# Altium integrated library TI Logic Buffer Line Driver.IntLib: 1053 symbols (part 8 of 17)
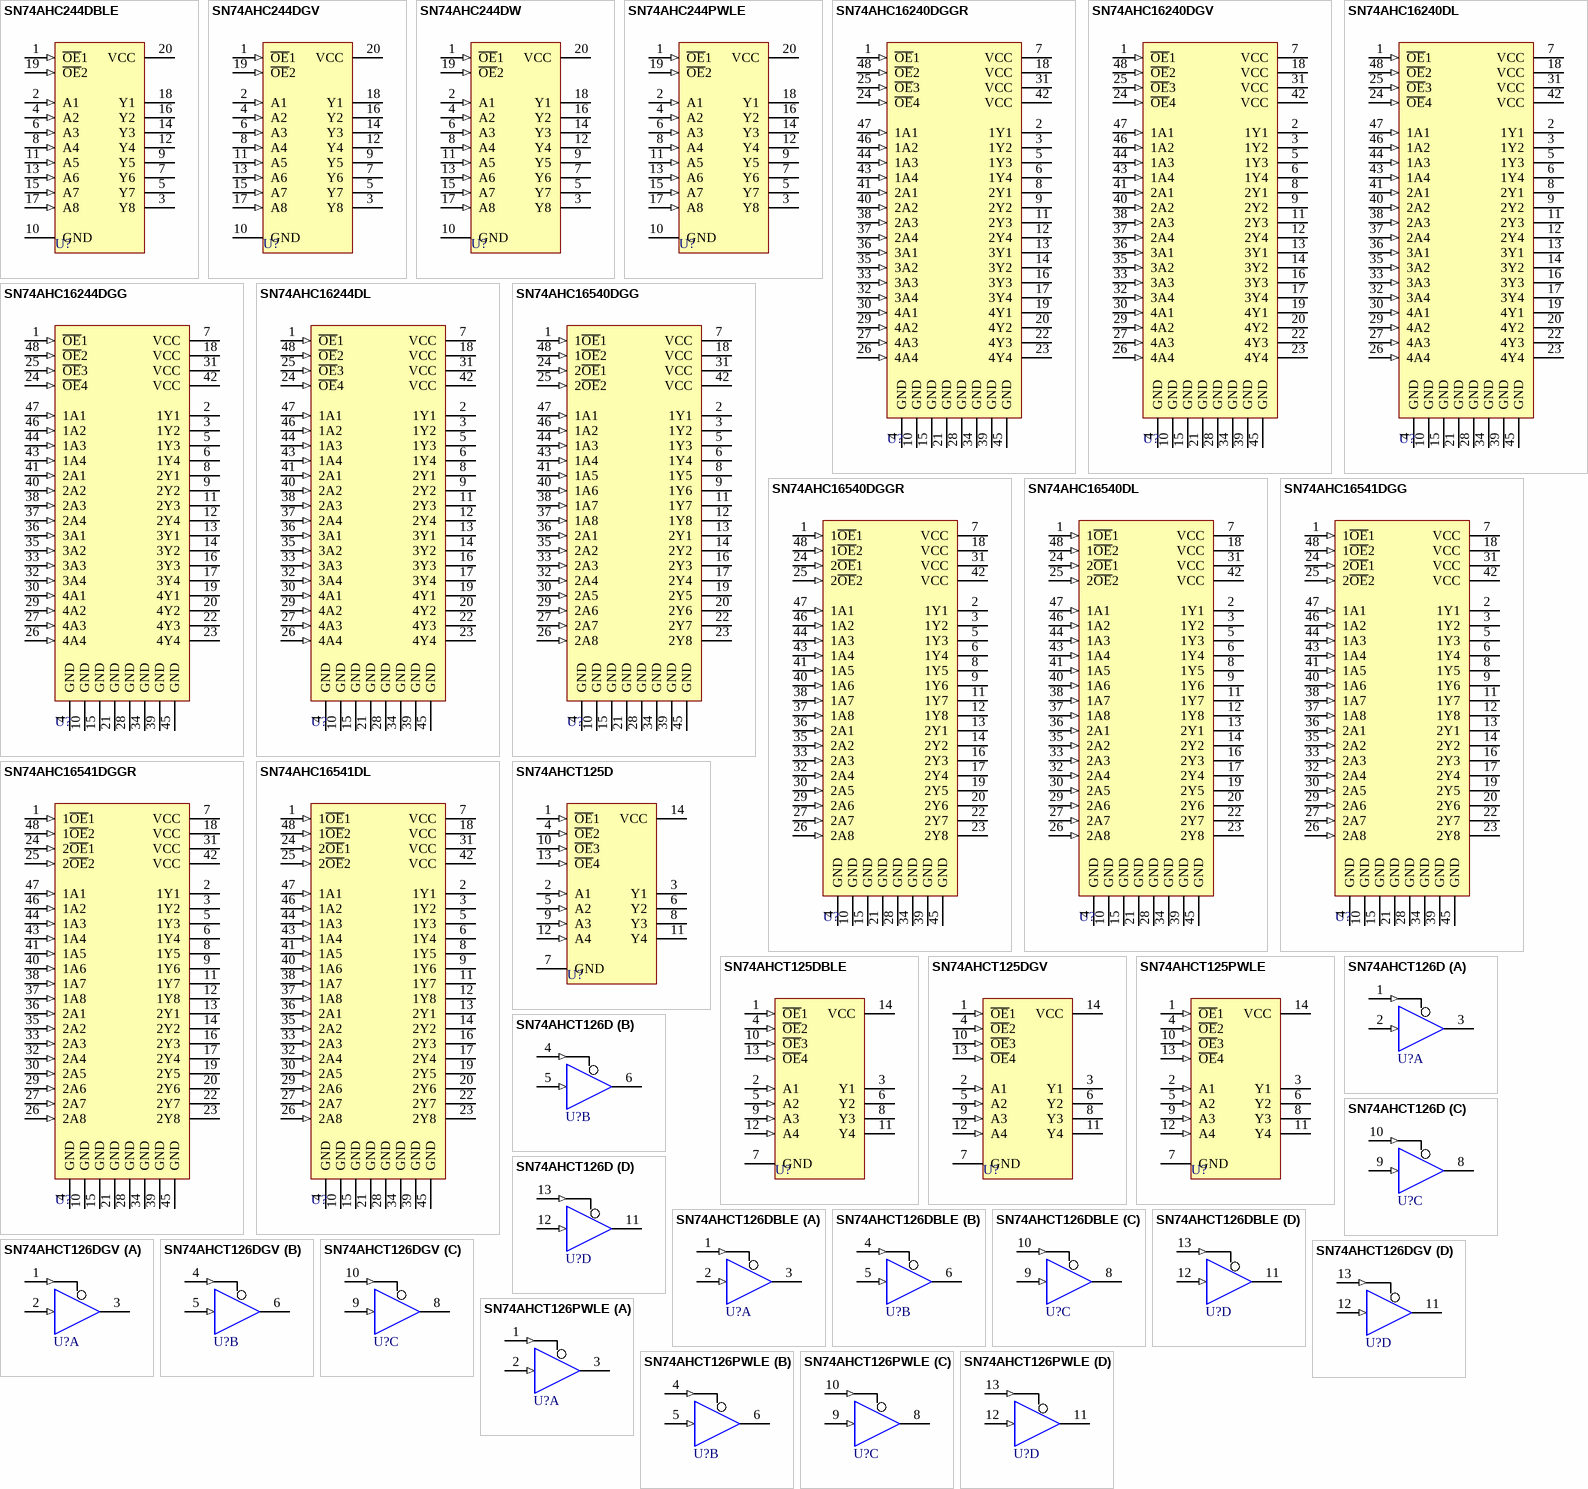
[diagram p52: symbols SN74AHC244DBLE to SN74AHCT126PWLE]

## SN74AHC16540DGGR
designator U?
16-Bit Buffer/Driver with 3-State Outputs; Package Information: Latest Revision: Jan-1998; Published: 8-Jun-2000; Revision: 17-Jul-2002: Re-released for DXP Platform.; Datasheet: Latest Revision: Jul-1998; Package Reference: DGG048; Publisher: Altium Limited
footprint DGG048 (Shrink Small Outline; 48 Leads; Body Width 6.1 mm; Pitch 0.5 mm)
signal-integrity model SN74AHC16540DGGR
pins: 1 1~{OE}1 (in), 2 1Y1 (hiz), 3 1Y2 (hiz), 4 GND (power), 5 1Y3 (hiz), 6 1Y4 (hiz), 7 VCC (power), 8 1Y5 (hiz), 9 1Y6 (hiz), 10 GND (power), 11 1Y7 (hiz), 12 1Y8 (hiz), 13 2Y1 (hiz), 14 2Y2 (hiz), 15 GND (power), 16 2Y3 (hiz), 17 2Y4 (hiz), 18 VCC (power), 19 2Y5 (hiz), 20 2Y6 (hiz), 21 GND (power), 22 2Y7 (hiz), 23 2Y8 (hiz), 24 2~{OE}1 (in), 25 2~{OE}2 (in), 26 2A8 (in), 27 2A7 (in), 28 GND (power), 29 2A6 (in), 30 2A5 (in), 31 VCC (power), 32 2A4 (in), 33 2A3 (in), 34 GND (power), 35 2A2 (in), 36 2A1 (in), 37 1A8 (in), 38 1A7 (in), 39 GND (power), 40 1A6 (in), 41 1A5 (in), 42 VCC (power), 43 1A4 (in), 44 1A3 (in), 45 GND (power), 46 1A2 (in), 47 1A1 (in), 48 1~{OE}2 (in)

## SN74AHC16540DL
designator U?
16-Bit Buffer/Driver with 3-State Outputs; Package Information: Latest Revision: Jan-1998; Code - JEDEC: MO-118-AA; Code - IPC: SSO48; Published: 8-Jun-2000; Revision: 17-Jul-2002: Re-released for DXP Platform.; Datasheet: Latest Revision: Jul-1998; Package Reference: DL048; Publisher: Altium Limited
footprint DL048 (SSOP; 48 Leads; Body Width 7.5 mm; Pitch 0.635 mm)
signal-integrity model SN74AHC16540DL
pins: 1 1~{OE}1 (in), 2 1Y1 (hiz), 3 1Y2 (hiz), 4 GND (power), 5 1Y3 (hiz), 6 1Y4 (hiz), 7 VCC (power), 8 1Y5 (hiz), 9 1Y6 (hiz), 10 GND (power), 11 1Y7 (hiz), 12 1Y8 (hiz), 13 2Y1 (hiz), 14 2Y2 (hiz), 15 GND (power), 16 2Y3 (hiz), 17 2Y4 (hiz), 18 VCC (power), 19 2Y5 (hiz), 20 2Y6 (hiz), 21 GND (power), 22 2Y7 (hiz), 23 2Y8 (hiz), 24 2~{OE}1 (in), 25 2~{OE}2 (in), 26 2A8 (in), 27 2A7 (in), 28 GND (power), 29 2A6 (in), 30 2A5 (in), 31 VCC (power), 32 2A4 (in), 33 2A3 (in), 34 GND (power), 35 2A2 (in), 36 2A1 (in), 37 1A8 (in), 38 1A7 (in), 39 GND (power), 40 1A6 (in), 41 1A5 (in), 42 VCC (power), 43 1A4 (in), 44 1A3 (in), 45 GND (power), 46 1A2 (in), 47 1A1 (in), 48 1~{OE}2 (in)

## SN74AHC16541DGG
designator U?
16-Bit Buffer/Driver with 3-State Outputs; Package Information: Latest Revision: Jan-1998; Published: 8-Jun-2000; Revision: 17-Jul-2002: Re-released for DXP Platform.; Datasheet: Latest Revision: Jul-1998; Package Reference: DGG048; Publisher: Altium Limited
footprint DGG048 (Shrink Small Outline; 48 Leads; Body Width 6.1 mm; Pitch 0.5 mm)
signal-integrity model SN74AHC16541DGG
pins: 1 1~{OE}1 (in), 2 1Y1 (hiz), 3 1Y2 (hiz), 4 GND (power), 5 1Y3 (hiz), 6 1Y4 (hiz), 7 VCC (power), 8 1Y5 (hiz), 9 1Y6 (hiz), 10 GND (power), 11 1Y7 (hiz), 12 1Y8 (hiz), 13 2Y1 (hiz), 14 2Y2 (hiz), 15 GND (power), 16 2Y3 (hiz), 17 2Y4 (hiz), 18 VCC (power), 19 2Y5 (hiz), 20 2Y6 (hiz), 21 GND (power), 22 2Y7 (hiz), 23 2Y8 (hiz), 24 2~{OE}1 (in), 25 2~{OE}2 (in), 26 2A8 (in), 27 2A7 (in), 28 GND (power), 29 2A6 (in), 30 2A5 (in), 31 VCC (power), 32 2A4 (in), 33 2A3 (in), 34 GND (power), 35 2A2 (in), 36 2A1 (in), 37 1A8 (in), 38 1A7 (in), 39 GND (power), 40 1A6 (in), 41 1A5 (in), 42 VCC (power), 43 1A4 (in), 44 1A3 (in), 45 GND (power), 46 1A2 (in), 47 1A1 (in), 48 1~{OE}2 (in)

## SN74AHC16541DGGR
designator U?
16-Bit Buffer/Driver with 3-State Outputs; Package Information: Latest Revision: Jan-1998; Published: 8-Jun-2000; Revision: 17-Jul-2002: Re-released for DXP Platform.; Datasheet: Latest Revision: Jul-1998; Package Reference: DGG048; Publisher: Altium Limited
footprint DGG048 (Shrink Small Outline; 48 Leads; Body Width 6.1 mm; Pitch 0.5 mm)
signal-integrity model SN74AHC16541DGGR
pins: 1 1~{OE}1 (in), 2 1Y1 (hiz), 3 1Y2 (hiz), 4 GND (power), 5 1Y3 (hiz), 6 1Y4 (hiz), 7 VCC (power), 8 1Y5 (hiz), 9 1Y6 (hiz), 10 GND (power), 11 1Y7 (hiz), 12 1Y8 (hiz), 13 2Y1 (hiz), 14 2Y2 (hiz), 15 GND (power), 16 2Y3 (hiz), 17 2Y4 (hiz), 18 VCC (power), 19 2Y5 (hiz), 20 2Y6 (hiz), 21 GND (power), 22 2Y7 (hiz), 23 2Y8 (hiz), 24 2~{OE}1 (in), 25 2~{OE}2 (in), 26 2A8 (in), 27 2A7 (in), 28 GND (power), 29 2A6 (in), 30 2A5 (in), 31 VCC (power), 32 2A4 (in), 33 2A3 (in), 34 GND (power), 35 2A2 (in), 36 2A1 (in), 37 1A8 (in), 38 1A7 (in), 39 GND (power), 40 1A6 (in), 41 1A5 (in), 42 VCC (power), 43 1A4 (in), 44 1A3 (in), 45 GND (power), 46 1A2 (in), 47 1A1 (in), 48 1~{OE}2 (in)

## SN74AHC16541DL
designator U?
16-Bit Buffer/Driver with 3-State Outputs; Package Information: Latest Revision: Jan-1998; Code - JEDEC: MO-118-AA; Code - IPC: SSO48; Published: 8-Jun-2000; Revision: 17-Jul-2002: Re-released for DXP Platform.; Datasheet: Latest Revision: Jul-1998; Package Reference: DL048; Publisher: Altium Limited
footprint DL048 (SSOP; 48 Leads; Body Width 7.5 mm; Pitch 0.635 mm)
signal-integrity model SN74AHC16541DL
pins: 1 1~{OE}1 (in), 2 1Y1 (hiz), 3 1Y2 (hiz), 4 GND (power), 5 1Y3 (hiz), 6 1Y4 (hiz), 7 VCC (power), 8 1Y5 (hiz), 9 1Y6 (hiz), 10 GND (power), 11 1Y7 (hiz), 12 1Y8 (hiz), 13 2Y1 (hiz), 14 2Y2 (hiz), 15 GND (power), 16 2Y3 (hiz), 17 2Y4 (hiz), 18 VCC (power), 19 2Y5 (hiz), 20 2Y6 (hiz), 21 GND (power), 22 2Y7 (hiz), 23 2Y8 (hiz), 24 2~{OE}1 (in), 25 2~{OE}2 (in), 26 2A8 (in), 27 2A7 (in), 28 GND (power), 29 2A6 (in), 30 2A5 (in), 31 VCC (power), 32 2A4 (in), 33 2A3 (in), 34 GND (power), 35 2A2 (in), 36 2A1 (in), 37 1A8 (in), 38 1A7 (in), 39 GND (power), 40 1A6 (in), 41 1A5 (in), 42 VCC (power), 43 1A4 (in), 44 1A3 (in), 45 GND (power), 46 1A2 (in), 47 1A1 (in), 48 1~{OE}2 (in)

## SN74AHCT125D
designator U?
Quadruple Bus Buffer Gate with 3-State Outputs; Package Information: Latest Revision: Jan-1998; Published: 8-Jun-2000; Revision: 17-Jul-2002: Re-released for DXP Platform.; Datasheet: Latest Revision: Oct-1998; Package Reference: D014; Publisher: Altium Limited
footprint D014 (Small Outline; 14 Leads; Body Width 3.9 mm; Pitch 1.27 mm)
signal-integrity model SN74AHCT125D
pins: 1 ~{OE}1 (in), 2 A1 (in), 3 Y1 (hiz), 4 ~{OE}2 (in), 5 A2 (in), 6 Y2 (hiz), 7 GND (power), 8 Y3 (hiz), 9 A3 (in), 10 ~{OE}3 (in), 11 Y4 (hiz), 12 A4 (in), 13 ~{OE}4 (in), 14 VCC (power)

## SN74AHCT125DBLE
designator U?
Quadruple Bus Buffer Gate with 3-State Outputs; Package Information: Latest Revision: May-1999; Code - JEDEC: MO-150-AB; Published: 8-Jun-2000; Revision: 17-Jul-2002: Re-released for DXP Platform.; Datasheet: Latest Revision: Oct-1998; Package Reference: DB014; Publisher: Altium Limited
footprint DB014 (Plastic SSOP; 14 Leads; Body Width 5.3 mm; Pitch 0.65 mm)
signal-integrity model SN74AHCT125DBLE
pins: 1 ~{OE}1 (in), 2 A1 (in), 3 Y1 (hiz), 4 ~{OE}2 (in), 5 A2 (in), 6 Y2 (hiz), 7 GND (power), 8 Y3 (hiz), 9 A3 (in), 10 ~{OE}3 (in), 11 Y4 (hiz), 12 A4 (in), 13 ~{OE}4 (in), 14 VCC (power)

## SN74AHCT125DGV
designator U?
Quadruple Bus Buffer Gate with 3-State Outputs; Package Information: Latest Revision: Mar-1999; Published: 8-Jun-2000; Revision: 17-Jul-2002: Re-released for DXP Platform.; Datasheet: Latest Revision: Oct-1998; Package Reference: DGV014; Publisher: Altium Limited
footprint DGV014 (Shrink Small Outline; 14 Leads; Body Width 4.4 mm; Pitch 0.4 mm)
signal-integrity model SN74AHCT125DGV
pins: 1 ~{OE}1 (in), 2 A1 (in), 3 Y1 (hiz), 4 ~{OE}2 (in), 5 A2 (in), 6 Y2 (hiz), 7 GND (power), 8 Y3 (hiz), 9 A3 (in), 10 ~{OE}3 (in), 11 Y4 (hiz), 12 A4 (in), 13 ~{OE}4 (in), 14 VCC (power)

## SN74AHCT125PWLE
designator U?
Quadruple Bus Buffer Gate with 3-State Outputs; Package Information: Latest Revision: Feb-1999; Published: 8-Jun-2000; Revision: 17-Jul-2002: Re-released for DXP Platform.; Datasheet: Latest Revision: Oct-1998; Package Reference: PW014; Publisher: Altium Limited
footprint PW014 (Shrink Small Outline; 14 Leads; Body Width 4.4 mm; Pitch 0.65 mm)
signal-integrity model SN74AHCT125PWLE
pins: 1 ~{OE}1 (in), 2 A1 (in), 3 Y1 (hiz), 4 ~{OE}2 (in), 5 A2 (in), 6 Y2 (hiz), 7 GND (power), 8 Y3 (hiz), 9 A3 (in), 10 ~{OE}3 (in), 11 Y4 (hiz), 12 A4 (in), 13 ~{OE}4 (in), 14 VCC (power)

## SN74AHCT126D
designator U?
Quadruple Bus Buffer Gate with 3-State Outputs; Package Information: Latest Revision: Jan-1998; Published: 8-Jun-2000; Revision: 17-Jul-2002: Re-released for DXP Platform.; Datasheet: Latest Revision: Oct-1998; Package Reference: D014; Publisher: Altium Limited
footprint D014 (Small Outline; 14 Leads; Body Width 3.9 mm; Pitch 1.27 mm)
signal-integrity model SN74AHCT126D
pins on every part: 7 GND (power) hidden to GND, 14 VCC (power) hidden to VCC
part A pins: 1 OE (in), 2 A (in), 3 Y (hiz)
part B pins: 4 OE (in), 5 A (in), 6 Y (hiz)
part C pins: 8 Y (hiz), 9 A (in), 10 OE (in)
part D pins: 11 Y (hiz), 12 A (in), 13 OE (in)

## SN74AHCT126DBLE
designator U?
Quadruple Bus Buffer Gate with 3-State Outputs; Package Information: Latest Revision: May-1999; Code - JEDEC: MO-150-AB; Published: 8-Jun-2000; Revision: 17-Jul-2002: Re-released for DXP Platform.; Datasheet: Latest Revision: Oct-1998; Package Reference: DB014; Publisher: Altium Limited
footprint DB014 (Plastic SSOP; 14 Leads; Body Width 5.3 mm; Pitch 0.65 mm)
signal-integrity model SN74AHCT126DBLE
pins on every part: 7 GND (power) hidden to GND, 14 VCC (power) hidden to VCC
part A pins: 1 OE (in), 2 A (in), 3 Y (hiz)
part B pins: 4 OE (in), 5 A (in), 6 Y (hiz)
part C pins: 8 Y (hiz), 9 A (in), 10 OE (in)
part D pins: 11 Y (hiz), 12 A (in), 13 OE (in)

## SN74AHCT126DGV
designator U?
Quadruple Bus Buffer Gate with 3-State Outputs; Package Information: Latest Revision: Mar-1999; Published: 8-Jun-2000; Revision: 17-Jul-2002: Re-released for DXP Platform.; Datasheet: Latest Revision: Oct-1998; Package Reference: DGV014; Publisher: Altium Limited
footprint DGV014 (Shrink Small Outline; 14 Leads; Body Width 4.4 mm; Pitch 0.4 mm)
signal-integrity model SN74AHCT126DGV
pins on every part: 7 GND (power) hidden to GND, 14 VCC (power) hidden to VCC
part A pins: 1 OE (in), 2 A (in), 3 Y (hiz)
part B pins: 4 OE (in), 5 A (in), 6 Y (hiz)
part C pins: 8 Y (hiz), 9 A (in), 10 OE (in)
part D pins: 11 Y (hiz), 12 A (in), 13 OE (in)

## SN74AHCT126PWLE
designator U?
Quadruple Bus Buffer Gate with 3-State Outputs; Package Information: Latest Revision: Feb-1999; Published: 8-Jun-2000; Revision: 17-Jul-2002: Re-released for DXP Platform.; Datasheet: Latest Revision: Oct-1998; Package Reference: PW014; Publisher: Altium Limited
footprint PW014 (Shrink Small Outline; 14 Leads; Body Width 4.4 mm; Pitch 0.65 mm)
signal-integrity model SN74AHCT126PWLE
pins on every part: 7 GND (power) hidden to GND, 14 VCC (power) hidden to VCC
part A pins: 1 OE (in), 2 A (in), 3 Y (hiz)
part B pins: 4 OE (in), 5 A (in), 6 Y (hiz)
part C pins: 8 Y (hiz), 9 A (in), 10 OE (in)
part D pins: 11 Y (hiz), 12 A (in), 13 OE (in)

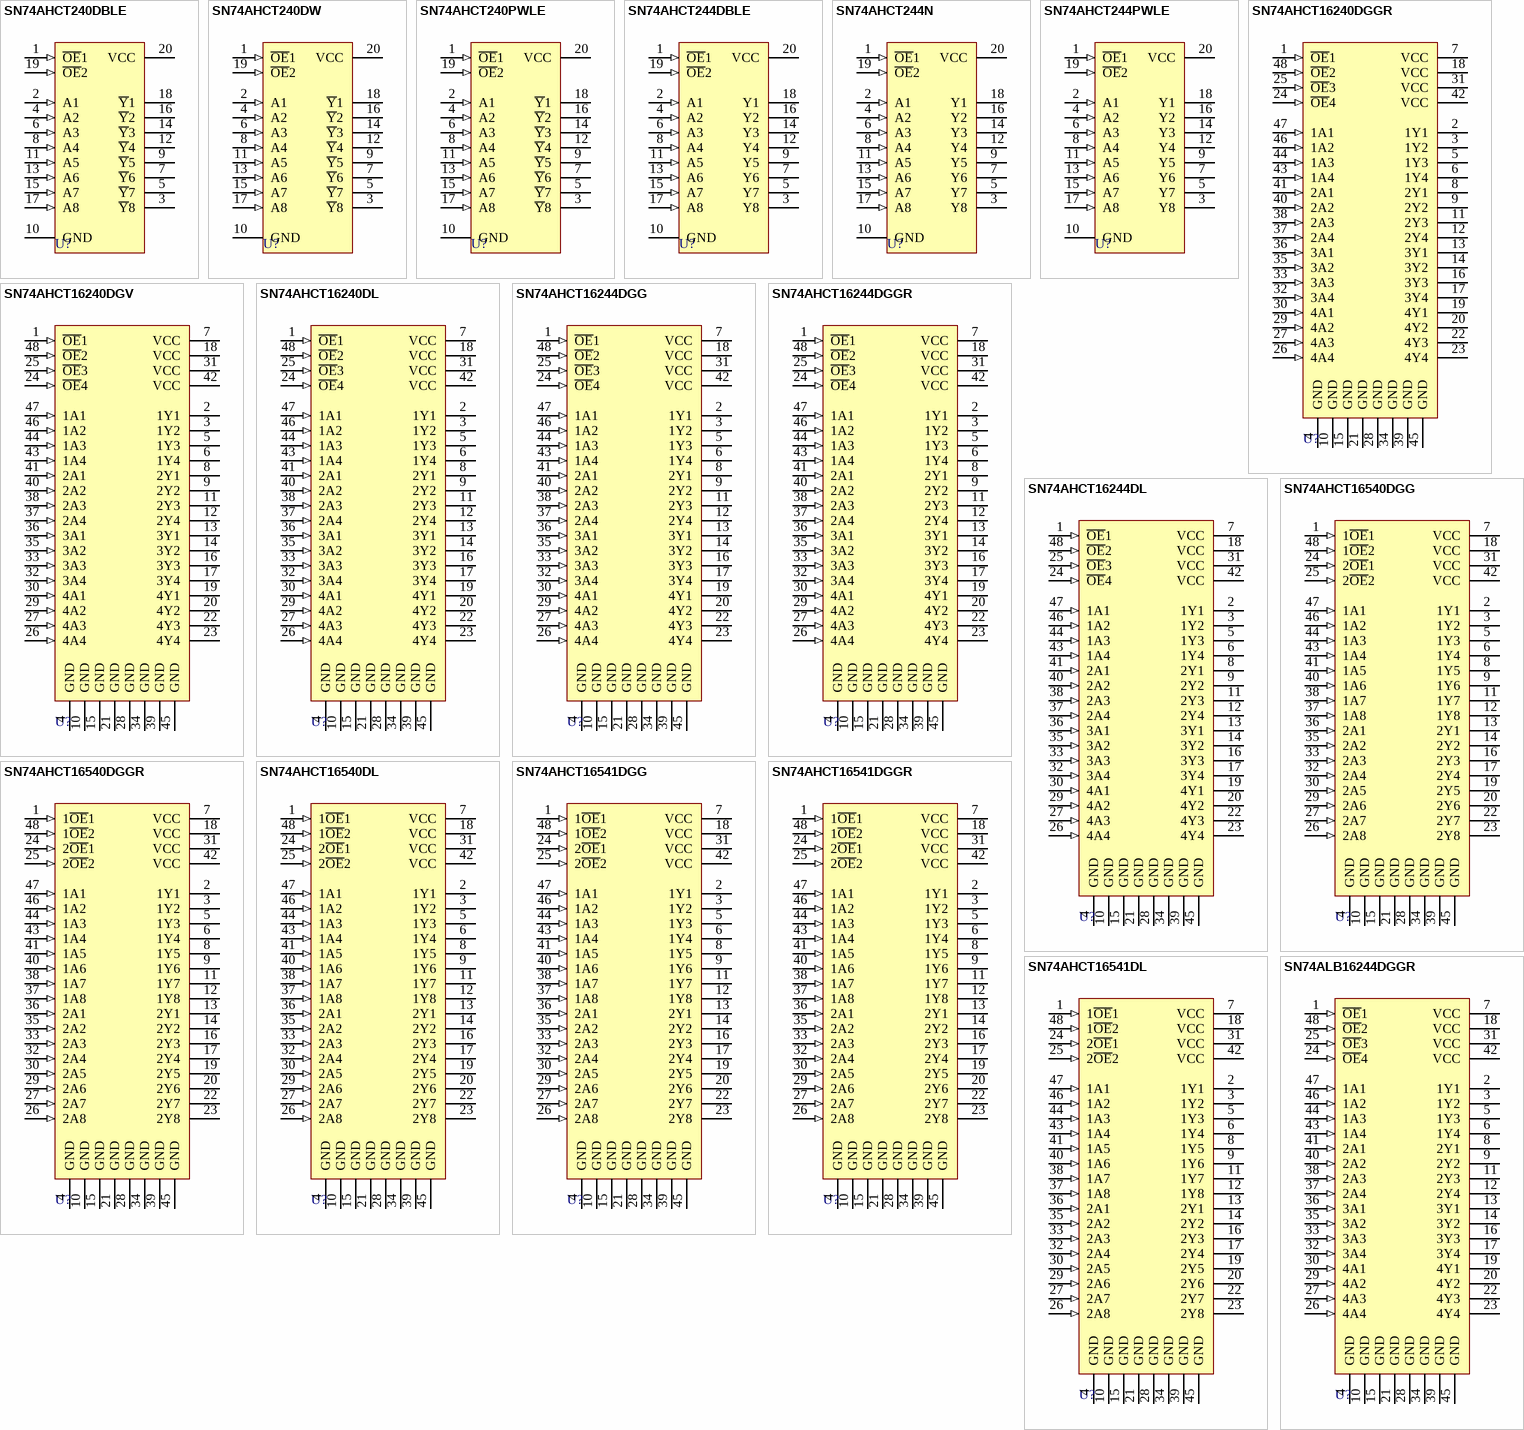
[diagram p20: symbols SN74AHCT240DBLE to SN74ALB16244DGGR]

## SN74AHCT240DBLE
designator U?
Octal Buffer/Driver with 3-State Outputs; Package Information: Latest Revision: May-1999; Code - JEDEC: MO-150-AE; Published: 8-Jun-2000; Revision: 17-Jul-2002: Re-released for DXP Platform.; Datasheet: Latest Revision: Oct-1998; Package Reference: DB020; Publisher: Altium Limited
footprint DB020 (Plastic SSOP; 20 Leads; Body Width 5.3 mm; Pitch 0.65 mm)
signal-integrity model SN74AHCT240DBLE
pins: 1 ~{OE}1 (in), 2 A1 (in), 3 ~{Y}8 (hiz), 4 A2 (in), 5 ~{Y}7 (hiz), 6 A3 (in), 7 ~{Y}6 (hiz), 8 A4 (in), 9 ~{Y}5 (hiz), 10 GND (power), 11 A5 (in), 12 ~{Y}4 (hiz), 13 A6 (in), 14 ~{Y}3 (hiz), 15 A7 (in), 16 ~{Y}2 (hiz), 17 A8 (in), 18 ~{Y}1 (hiz), 19 ~{OE}2 (in), 20 VCC (power)

## SN74AHCT240DW
designator U?
Octal Buffer/Driver with 3-State Outputs; Package Information: Latest Revision: Mar-2000; Code - JEDEC: MS-013; Published: 8-Jun-2000; Revision: 17-Jul-2002: Re-released for DXP Platform.; Datasheet: Latest Revision: Oct-1998; Package Reference: DW020; Publisher: Altium Limited
footprint DW020 (Plastic Small Outline; 20 Leads; Body Width 7.5 mm)
signal-integrity model SN74AHCT240DW
pins: 1 ~{OE}1 (in), 2 A1 (in), 3 ~{Y}8 (hiz), 4 A2 (in), 5 ~{Y}7 (hiz), 6 A3 (in), 7 ~{Y}6 (hiz), 8 A4 (in), 9 ~{Y}5 (hiz), 10 GND (power), 11 A5 (in), 12 ~{Y}4 (hiz), 13 A6 (in), 14 ~{Y}3 (hiz), 15 A7 (in), 16 ~{Y}2 (hiz), 17 A8 (in), 18 ~{Y}1 (hiz), 19 ~{OE}2 (in), 20 VCC (power)

## SN74AHCT240PWLE
designator U?
Octal Buffer/Driver with 3-State Outputs; Package Information: Latest Revision: Feb-1999; Published: 8-Jun-2000; Revision: 17-Jul-2002: Re-released for DXP Platform.; Datasheet: Latest Revision: Oct-1998; Package Reference: PW020; Publisher: Altium Limited
footprint PW020 (Shrink Small Outline; 20 Leads; Body Width 4.4 mm; Pitch 0.65 mm)
signal-integrity model SN74AHCT240PWLE
pins: 1 ~{OE}1 (in), 2 A1 (in), 3 ~{Y}8 (hiz), 4 A2 (in), 5 ~{Y}7 (hiz), 6 A3 (in), 7 ~{Y}6 (hiz), 8 A4 (in), 9 ~{Y}5 (hiz), 10 GND (power), 11 A5 (in), 12 ~{Y}4 (hiz), 13 A6 (in), 14 ~{Y}3 (hiz), 15 A7 (in), 16 ~{Y}2 (hiz), 17 A8 (in), 18 ~{Y}1 (hiz), 19 ~{OE}2 (in), 20 VCC (power)

## SN74AHCT244DBLE
designator U?
Octal Buffer/Driver with 3-State Outputs; Package Information: Latest Revision: May-1999; Code - JEDEC: MO-150-AE; Published: 8-Jun-2000; Revision: 17-Jul-2002: Re-released for DXP Platform.; Datasheet: Latest Revision: Oct-1998; Package Reference: DB020; Publisher: Altium Limited
footprint DB020 (Plastic SSOP; 20 Leads; Body Width 5.3 mm; Pitch 0.65 mm)
signal-integrity model SN74AHCT244DBLE
pins: 1 ~{OE}1 (in), 2 A1 (in), 3 Y8 (hiz), 4 A2 (in), 5 Y7 (hiz), 6 A3 (in), 7 Y6 (hiz), 8 A4 (in), 9 Y5 (hiz), 10 GND (power), 11 A5 (in), 12 Y4 (hiz), 13 A6 (in), 14 Y3 (hiz), 15 A7 (in), 16 Y2 (hiz), 17 A8 (in), 18 Y1 (hiz), 19 ~{OE}2 (in), 20 VCC (power)

## SN74AHCT244N
designator U?
Octal Buffer/Driver with 3-State Outputs; Package Information: Latest Revision: Oct-1995; Published: 8-Jun-2000; Revision: 17-Jul-2002: Re-released for DXP Platform.; Datasheet: Latest Revision: Oct-1998; Package Reference: N020; Publisher: Altium Limited
footprint N020 (DIP; 20 Leads; Row Spacing 7.62 mm; Pitch 2.54 mm)
signal-integrity model SN74AHCT244N
pins: 1 ~{OE}1 (in), 2 A1 (in), 3 Y8 (hiz), 4 A2 (in), 5 Y7 (hiz), 6 A3 (in), 7 Y6 (hiz), 8 A4 (in), 9 Y5 (hiz), 10 GND (power), 11 A5 (in), 12 Y4 (hiz), 13 A6 (in), 14 Y3 (hiz), 15 A7 (in), 16 Y2 (hiz), 17 A8 (in), 18 Y1 (hiz), 19 ~{OE}2 (in), 20 VCC (power)

## SN74AHCT244PWLE
designator U?
Octal Buffer/Driver with 3-State Outputs; Package Information: Latest Revision: Feb-1999; Published: 8-Jun-2000; Revision: 17-Jul-2002: Re-released for DXP Platform.; Datasheet: Latest Revision: Oct-1998; Package Reference: PW020; Publisher: Altium Limited
footprint PW020 (Shrink Small Outline; 20 Leads; Body Width 4.4 mm; Pitch 0.65 mm)
signal-integrity model SN74AHCT244PWLE
pins: 1 ~{OE}1 (in), 2 A1 (in), 3 Y8 (hiz), 4 A2 (in), 5 Y7 (hiz), 6 A3 (in), 7 Y6 (hiz), 8 A4 (in), 9 Y5 (hiz), 10 GND (power), 11 A5 (in), 12 Y4 (hiz), 13 A6 (in), 14 Y3 (hiz), 15 A7 (in), 16 Y2 (hiz), 17 A8 (in), 18 Y1 (hiz), 19 ~{OE}2 (in), 20 VCC (power)

## SN74AHCT16240DGGR
designator U?
16-Bit Buffer/Driver with 3-State Outputs; Package Information: Latest Revision: Jan-1998; Published: 8-Jun-2000; Revision: 17-Jul-2002: Re-released for DXP Platform.; Datasheet: Latest Revision: Oct-1998; Package Reference: DGG048; Publisher: Altium Limited
footprint DGG048 (Shrink Small Outline; 48 Leads; Body Width 6.1 mm; Pitch 0.5 mm)
signal-integrity model SN74AHCT16240DGGR
pins: 1 ~{OE}1 (in), 2 1Y1 (hiz), 3 1Y2 (hiz), 4 GND (power), 5 1Y3 (hiz), 6 1Y4 (hiz), 7 VCC (power), 8 2Y1 (hiz), 9 2Y2 (hiz), 10 GND (power), 11 2Y3 (hiz), 12 2Y4 (hiz), 13 3Y1 (hiz), 14 3Y2 (hiz), 15 GND (power), 16 3Y3 (hiz), 17 3Y4 (hiz), 18 VCC (power), 19 4Y1 (hiz), 20 4Y2 (hiz), 21 GND (power), 22 4Y3 (hiz), 23 4Y4 (hiz), 24 ~{OE}4 (in), 25 ~{OE}3 (in), 26 4A4 (in), 27 4A3 (in), 28 GND (power), 29 4A2 (in), 30 4A1 (in), 31 VCC (power), 32 3A4 (in), 33 3A3 (in), 34 GND (power), 35 3A2 (in), 36 3A1 (in), 37 2A4 (in), 38 2A3 (in), 39 GND (power), 40 2A2 (in), 41 2A1 (in), 42 VCC (power), 43 1A4 (in), 44 1A3 (in), 45 GND (power), 46 1A2 (in), 47 1A1 (in), 48 ~{OE}2 (in)

## SN74AHCT16240DGV
designator U?
16-Bit Buffer/Driver with 3-State Outputs; Package Information: Latest Revision: Mar-1999; Published: 8-Jun-2000; Revision: 17-Jul-2002: Re-released for DXP Platform.; Datasheet: Latest Revision: Oct-1998; Package Reference: DGV048; Publisher: Altium Limited
footprint DGV048 (Shrink Small Outline; 48 Leads; Body Width 4.4 mm; Pitch 0.4 mm)
signal-integrity model SN74AHCT16240DGV
pins: 1 ~{OE}1 (in), 2 1Y1 (hiz), 3 1Y2 (hiz), 4 GND (power), 5 1Y3 (hiz), 6 1Y4 (hiz), 7 VCC (power), 8 2Y1 (hiz), 9 2Y2 (hiz), 10 GND (power), 11 2Y3 (hiz), 12 2Y4 (hiz), 13 3Y1 (hiz), 14 3Y2 (hiz), 15 GND (power), 16 3Y3 (hiz), 17 3Y4 (hiz), 18 VCC (power), 19 4Y1 (hiz), 20 4Y2 (hiz), 21 GND (power), 22 4Y3 (hiz), 23 4Y4 (hiz), 24 ~{OE}4 (in), 25 ~{OE}3 (in), 26 4A4 (in), 27 4A3 (in), 28 GND (power), 29 4A2 (in), 30 4A1 (in), 31 VCC (power), 32 3A4 (in), 33 3A3 (in), 34 GND (power), 35 3A2 (in), 36 3A1 (in), 37 2A4 (in), 38 2A3 (in), 39 GND (power), 40 2A2 (in), 41 2A1 (in), 42 VCC (power), 43 1A4 (in), 44 1A3 (in), 45 GND (power), 46 1A2 (in), 47 1A1 (in), 48 ~{OE}2 (in)

## SN74AHCT16240DL
designator U?
16-Bit Buffer/Driver with 3-State Outputs; Package Information: Latest Revision: Jan-1998; Code - JEDEC: MO-118-AA; Code - IPC: SSO48; Published: 8-Jun-2000; Revision: 17-Jul-2002: Re-released for DXP Platform.; Datasheet: Latest Revision: Oct-1998; Package Reference: DL048; Publisher: Altium Limited
footprint DL048 (SSOP; 48 Leads; Body Width 7.5 mm; Pitch 0.635 mm)
signal-integrity model SN74AHCT16240DL
pins: 1 ~{OE}1 (in), 2 1Y1 (hiz), 3 1Y2 (hiz), 4 GND (power), 5 1Y3 (hiz), 6 1Y4 (hiz), 7 VCC (power), 8 2Y1 (hiz), 9 2Y2 (hiz), 10 GND (power), 11 2Y3 (hiz), 12 2Y4 (hiz), 13 3Y1 (hiz), 14 3Y2 (hiz), 15 GND (power), 16 3Y3 (hiz), 17 3Y4 (hiz), 18 VCC (power), 19 4Y1 (hiz), 20 4Y2 (hiz), 21 GND (power), 22 4Y3 (hiz), 23 4Y4 (hiz), 24 ~{OE}4 (in), 25 ~{OE}3 (in), 26 4A4 (in), 27 4A3 (in), 28 GND (power), 29 4A2 (in), 30 4A1 (in), 31 VCC (power), 32 3A4 (in), 33 3A3 (in), 34 GND (power), 35 3A2 (in), 36 3A1 (in), 37 2A4 (in), 38 2A3 (in), 39 GND (power), 40 2A2 (in), 41 2A1 (in), 42 VCC (power), 43 1A4 (in), 44 1A3 (in), 45 GND (power), 46 1A2 (in), 47 1A1 (in), 48 ~{OE}2 (in)

## SN74AHCT16244DGG
designator U?
16-Bit Buffer/Driver with 3-State Outputs; Package Information: Latest Revision: Jan-1998; Published: 8-Jun-2000; Revision: 17-Jul-2002: Re-released for DXP Platform.; Datasheet: Latest Revision: Oct-1998; Package Reference: DGG048; Publisher: Altium Limited
footprint DGG048 (Shrink Small Outline; 48 Leads; Body Width 6.1 mm; Pitch 0.5 mm)
signal-integrity model SN74AHCT16244DGG
pins: 1 ~{OE}1 (in), 2 1Y1 (hiz), 3 1Y2 (hiz), 4 GND (power), 5 1Y3 (hiz), 6 1Y4 (hiz), 7 VCC (power), 8 2Y1 (hiz), 9 2Y2 (hiz), 10 GND (power), 11 2Y3 (hiz), 12 2Y4 (hiz), 13 3Y1 (hiz), 14 3Y2 (hiz), 15 GND (power), 16 3Y3 (hiz), 17 3Y4 (hiz), 18 VCC (power), 19 4Y1 (hiz), 20 4Y2 (hiz), 21 GND (power), 22 4Y3 (hiz), 23 4Y4 (hiz), 24 ~{OE}4 (in), 25 ~{OE}3 (in), 26 4A4 (in), 27 4A3 (in), 28 GND (power), 29 4A2 (in), 30 4A1 (in), 31 VCC (power), 32 3A4 (in), 33 3A3 (in), 34 GND (power), 35 3A2 (in), 36 3A1 (in), 37 2A4 (in), 38 2A3 (in), 39 GND (power), 40 2A2 (in), 41 2A1 (in), 42 VCC (power), 43 1A4 (in), 44 1A3 (in), 45 GND (power), 46 1A2 (in), 47 1A1 (in), 48 ~{OE}2 (in)

## SN74AHCT16244DGGR
designator U?
16-Bit Buffer/Driver with 3-State Outputs; Package Information: Latest Revision: Jan-1998; Published: 8-Jun-2000; Revision: 17-Jul-2002: Re-released for DXP Platform.; Datasheet: Latest Revision: Oct-1998; Package Reference: DGG048; Publisher: Altium Limited
footprint DGG048 (Shrink Small Outline; 48 Leads; Body Width 6.1 mm; Pitch 0.5 mm)
signal-integrity model SN74AHCT16244DGGR
pins: 1 ~{OE}1 (in), 2 1Y1 (hiz), 3 1Y2 (hiz), 4 GND (power), 5 1Y3 (hiz), 6 1Y4 (hiz), 7 VCC (power), 8 2Y1 (hiz), 9 2Y2 (hiz), 10 GND (power), 11 2Y3 (hiz), 12 2Y4 (hiz), 13 3Y1 (hiz), 14 3Y2 (hiz), 15 GND (power), 16 3Y3 (hiz), 17 3Y4 (hiz), 18 VCC (power), 19 4Y1 (hiz), 20 4Y2 (hiz), 21 GND (power), 22 4Y3 (hiz), 23 4Y4 (hiz), 24 ~{OE}4 (in), 25 ~{OE}3 (in), 26 4A4 (in), 27 4A3 (in), 28 GND (power), 29 4A2 (in), 30 4A1 (in), 31 VCC (power), 32 3A4 (in), 33 3A3 (in), 34 GND (power), 35 3A2 (in), 36 3A1 (in), 37 2A4 (in), 38 2A3 (in), 39 GND (power), 40 2A2 (in), 41 2A1 (in), 42 VCC (power), 43 1A4 (in), 44 1A3 (in), 45 GND (power), 46 1A2 (in), 47 1A1 (in), 48 ~{OE}2 (in)

## SN74AHCT16244DL
designator U?
16-Bit Buffer/Driver with 3-State Outputs; Package Information: Latest Revision: Jan-1998; Code - JEDEC: MO-118-AA; Code - IPC: SSO48; Published: 8-Jun-2000; Revision: 17-Jul-2002: Re-released for DXP Platform.; Datasheet: Latest Revision: Oct-1998; Package Reference: DL048; Publisher: Altium Limited
footprint DL048 (SSOP; 48 Leads; Body Width 7.5 mm; Pitch 0.635 mm)
signal-integrity model SN74AHCT16244DL
pins: 1 ~{OE}1 (in), 2 1Y1 (hiz), 3 1Y2 (hiz), 4 GND (power), 5 1Y3 (hiz), 6 1Y4 (hiz), 7 VCC (power), 8 2Y1 (hiz), 9 2Y2 (hiz), 10 GND (power), 11 2Y3 (hiz), 12 2Y4 (hiz), 13 3Y1 (hiz), 14 3Y2 (hiz), 15 GND (power), 16 3Y3 (hiz), 17 3Y4 (hiz), 18 VCC (power), 19 4Y1 (hiz), 20 4Y2 (hiz), 21 GND (power), 22 4Y3 (hiz), 23 4Y4 (hiz), 24 ~{OE}4 (in), 25 ~{OE}3 (in), 26 4A4 (in), 27 4A3 (in), 28 GND (power), 29 4A2 (in), 30 4A1 (in), 31 VCC (power), 32 3A4 (in), 33 3A3 (in), 34 GND (power), 35 3A2 (in), 36 3A1 (in), 37 2A4 (in), 38 2A3 (in), 39 GND (power), 40 2A2 (in), 41 2A1 (in), 42 VCC (power), 43 1A4 (in), 44 1A3 (in), 45 GND (power), 46 1A2 (in), 47 1A1 (in), 48 ~{OE}2 (in)

## SN74AHCT16540DGG
designator U?
16-Bit Buffer/Driver with 3-State Outputs; Package Information: Latest Revision: Jan-1998; Published: 8-Jun-2000; Revision: 17-Jul-2002: Re-released for DXP Platform.; Datasheet: Latest Revision: Oct-1998; Package Reference: DGG048; Publisher: Altium Limited
footprint DGG048 (Shrink Small Outline; 48 Leads; Body Width 6.1 mm; Pitch 0.5 mm)
signal-integrity model SN74AHCT16540DGG
pins: 1 1~{OE}1 (in), 2 1Y1 (hiz), 3 1Y2 (hiz), 4 GND (power), 5 1Y3 (hiz), 6 1Y4 (hiz), 7 VCC (power), 8 1Y5 (hiz), 9 1Y6 (hiz), 10 GND (power), 11 1Y7 (hiz), 12 1Y8 (hiz), 13 2Y1 (hiz), 14 2Y2 (hiz), 15 GND (power), 16 2Y3 (hiz), 17 2Y4 (hiz), 18 VCC (power), 19 2Y5 (hiz), 20 2Y6 (hiz), 21 GND (power), 22 2Y7 (hiz), 23 2Y8 (hiz), 24 2~{OE}1 (in), 25 2~{OE}2 (in), 26 2A8 (in), 27 2A7 (in), 28 GND (power), 29 2A6 (in), 30 2A5 (in), 31 VCC (power), 32 2A4 (in), 33 2A3 (in), 34 GND (power), 35 2A2 (in), 36 2A1 (in), 37 1A8 (in), 38 1A7 (in), 39 GND (power), 40 1A6 (in), 41 1A5 (in), 42 VCC (power), 43 1A4 (in), 44 1A3 (in), 45 GND (power), 46 1A2 (in), 47 1A1 (in), 48 1~{OE}2 (in)

## SN74AHCT16540DGGR
designator U?
16-Bit Buffer/Driver with 3-State Outputs; Package Information: Latest Revision: Jan-1998; Published: 8-Jun-2000; Revision: 17-Jul-2002: Re-released for DXP Platform.; Datasheet: Latest Revision: Oct-1998; Package Reference: DGG048; Publisher: Altium Limited
footprint DGG048 (Shrink Small Outline; 48 Leads; Body Width 6.1 mm; Pitch 0.5 mm)
signal-integrity model SN74AHCT16540DGGR
pins: 1 1~{OE}1 (in), 2 1Y1 (hiz), 3 1Y2 (hiz), 4 GND (power), 5 1Y3 (hiz), 6 1Y4 (hiz), 7 VCC (power), 8 1Y5 (hiz), 9 1Y6 (hiz), 10 GND (power), 11 1Y7 (hiz), 12 1Y8 (hiz), 13 2Y1 (hiz), 14 2Y2 (hiz), 15 GND (power), 16 2Y3 (hiz), 17 2Y4 (hiz), 18 VCC (power), 19 2Y5 (hiz), 20 2Y6 (hiz), 21 GND (power), 22 2Y7 (hiz), 23 2Y8 (hiz), 24 2~{OE}1 (in), 25 2~{OE}2 (in), 26 2A8 (in), 27 2A7 (in), 28 GND (power), 29 2A6 (in), 30 2A5 (in), 31 VCC (power), 32 2A4 (in), 33 2A3 (in), 34 GND (power), 35 2A2 (in), 36 2A1 (in), 37 1A8 (in), 38 1A7 (in), 39 GND (power), 40 1A6 (in), 41 1A5 (in), 42 VCC (power), 43 1A4 (in), 44 1A3 (in), 45 GND (power), 46 1A2 (in), 47 1A1 (in), 48 1~{OE}2 (in)

## SN74AHCT16540DL
designator U?
16-Bit Buffer/Driver with 3-State Outputs; Package Information: Latest Revision: Jan-1998; Code - JEDEC: MO-118-AA; Code - IPC: SSO48; Published: 8-Jun-2000; Revision: 17-Jul-2002: Re-released for DXP Platform.; Datasheet: Latest Revision: Oct-1998; Package Reference: DL048; Publisher: Altium Limited
footprint DL048 (SSOP; 48 Leads; Body Width 7.5 mm; Pitch 0.635 mm)
signal-integrity model SN74AHCT16540DL
pins: 1 1~{OE}1 (in), 2 1Y1 (hiz), 3 1Y2 (hiz), 4 GND (power), 5 1Y3 (hiz), 6 1Y4 (hiz), 7 VCC (power), 8 1Y5 (hiz), 9 1Y6 (hiz), 10 GND (power), 11 1Y7 (hiz), 12 1Y8 (hiz), 13 2Y1 (hiz), 14 2Y2 (hiz), 15 GND (power), 16 2Y3 (hiz), 17 2Y4 (hiz), 18 VCC (power), 19 2Y5 (hiz), 20 2Y6 (hiz), 21 GND (power), 22 2Y7 (hiz), 23 2Y8 (hiz), 24 2~{OE}1 (in), 25 2~{OE}2 (in), 26 2A8 (in), 27 2A7 (in), 28 GND (power), 29 2A6 (in), 30 2A5 (in), 31 VCC (power), 32 2A4 (in), 33 2A3 (in), 34 GND (power), 35 2A2 (in), 36 2A1 (in), 37 1A8 (in), 38 1A7 (in), 39 GND (power), 40 1A6 (in), 41 1A5 (in), 42 VCC (power), 43 1A4 (in), 44 1A3 (in), 45 GND (power), 46 1A2 (in), 47 1A1 (in), 48 1~{OE}2 (in)

## SN74AHCT16541DGG
designator U?
16-Bit Buffer/Driver with 3-State Outputs; Package Information: Latest Revision: Jan-1998; Published: 8-Jun-2000; Revision: 17-Jul-2002: Re-released for DXP Platform.; Datasheet: Latest Revision: Oct-1998; Package Reference: DGG048; Publisher: Altium Limited
footprint DGG048 (Shrink Small Outline; 48 Leads; Body Width 6.1 mm; Pitch 0.5 mm)
signal-integrity model SN74AHCT16541DGG
pins: 1 1~{OE}1 (in), 2 1Y1 (hiz), 3 1Y2 (hiz), 4 GND (power), 5 1Y3 (hiz), 6 1Y4 (hiz), 7 VCC (power), 8 1Y5 (hiz), 9 1Y6 (hiz), 10 GND (power), 11 1Y7 (hiz), 12 1Y8 (hiz), 13 2Y1 (hiz), 14 2Y2 (hiz), 15 GND (power), 16 2Y3 (hiz), 17 2Y4 (hiz), 18 VCC (power), 19 2Y5 (hiz), 20 2Y6 (hiz), 21 GND (power), 22 2Y7 (hiz), 23 2Y8 (hiz), 24 2~{OE}1 (in), 25 2~{OE}2 (in), 26 2A8 (in), 27 2A7 (in), 28 GND (power), 29 2A6 (in), 30 2A5 (in), 31 VCC (power), 32 2A4 (in), 33 2A3 (in), 34 GND (power), 35 2A2 (in), 36 2A1 (in), 37 1A8 (in), 38 1A7 (in), 39 GND (power), 40 1A6 (in), 41 1A5 (in), 42 VCC (power), 43 1A4 (in), 44 1A3 (in), 45 GND (power), 46 1A2 (in), 47 1A1 (in), 48 1~{OE}2 (in)

## SN74AHCT16541DGGR
designator U?
16-Bit Buffer/Driver with 3-State Outputs; Package Information: Latest Revision: Jan-1998; Published: 8-Jun-2000; Revision: 17-Jul-2002: Re-released for DXP Platform.; Datasheet: Latest Revision: Oct-1998; Package Reference: DGG048; Publisher: Altium Limited
footprint DGG048 (Shrink Small Outline; 48 Leads; Body Width 6.1 mm; Pitch 0.5 mm)
signal-integrity model SN74AHCT16541DGGR
pins: 1 1~{OE}1 (in), 2 1Y1 (hiz), 3 1Y2 (hiz), 4 GND (power), 5 1Y3 (hiz), 6 1Y4 (hiz), 7 VCC (power), 8 1Y5 (hiz), 9 1Y6 (hiz), 10 GND (power), 11 1Y7 (hiz), 12 1Y8 (hiz), 13 2Y1 (hiz), 14 2Y2 (hiz), 15 GND (power), 16 2Y3 (hiz), 17 2Y4 (hiz), 18 VCC (power), 19 2Y5 (hiz), 20 2Y6 (hiz), 21 GND (power), 22 2Y7 (hiz), 23 2Y8 (hiz), 24 2~{OE}1 (in), 25 2~{OE}2 (in), 26 2A8 (in), 27 2A7 (in), 28 GND (power), 29 2A6 (in), 30 2A5 (in), 31 VCC (power), 32 2A4 (in), 33 2A3 (in), 34 GND (power), 35 2A2 (in), 36 2A1 (in), 37 1A8 (in), 38 1A7 (in), 39 GND (power), 40 1A6 (in), 41 1A5 (in), 42 VCC (power), 43 1A4 (in), 44 1A3 (in), 45 GND (power), 46 1A2 (in), 47 1A1 (in), 48 1~{OE}2 (in)

## SN74AHCT16541DL
designator U?
16-Bit Buffer/Driver with 3-State Outputs; Package Information: Latest Revision: Jan-1998; Code - JEDEC: MO-118-AA; Code - IPC: SSO48; Published: 8-Jun-2000; Revision: 17-Jul-2002: Re-released for DXP Platform.; Datasheet: Latest Revision: Oct-1998; Package Reference: DL048; Publisher: Altium Limited
footprint DL048 (SSOP; 48 Leads; Body Width 7.5 mm; Pitch 0.635 mm)
signal-integrity model SN74AHCT16541DL
pins: 1 1~{OE}1 (in), 2 1Y1 (hiz), 3 1Y2 (hiz), 4 GND (power), 5 1Y3 (hiz), 6 1Y4 (hiz), 7 VCC (power), 8 1Y5 (hiz), 9 1Y6 (hiz), 10 GND (power), 11 1Y7 (hiz), 12 1Y8 (hiz), 13 2Y1 (hiz), 14 2Y2 (hiz), 15 GND (power), 16 2Y3 (hiz), 17 2Y4 (hiz), 18 VCC (power), 19 2Y5 (hiz), 20 2Y6 (hiz), 21 GND (power), 22 2Y7 (hiz), 23 2Y8 (hiz), 24 2~{OE}1 (in), 25 2~{OE}2 (in), 26 2A8 (in), 27 2A7 (in), 28 GND (power), 29 2A6 (in), 30 2A5 (in), 31 VCC (power), 32 2A4 (in), 33 2A3 (in), 34 GND (power), 35 2A2 (in), 36 2A1 (in), 37 1A8 (in), 38 1A7 (in), 39 GND (power), 40 1A6 (in), 41 1A5 (in), 42 VCC (power), 43 1A4 (in), 44 1A3 (in), 45 GND (power), 46 1A2 (in), 47 1A1 (in), 48 1~{OE}2 (in)

## SN74ALB16244DGGR
designator U?
16-Bit Buffer/Driver with 3-State Outputs; Package Information: Latest Revision: Jan-1998; Published: 8-Jun-2000; Revision: 17-Jul-2002: Re-released for DXP Platform.; Datasheet: Latest Revision: Jul-1997; Package Reference: DGG048; Publisher: Altium Limited
footprint DGG048 (Shrink Small Outline; 48 Leads; Body Width 6.1 mm; Pitch 0.5 mm)
pins: 1 ~{OE}1 (in), 2 1Y1 (hiz), 3 1Y2 (hiz), 4 GND (power), 5 1Y3 (hiz), 6 1Y4 (hiz), 7 VCC (power), 8 2Y1 (hiz), 9 2Y2 (hiz), 10 GND (power), 11 2Y3 (hiz), 12 2Y4 (hiz), 13 3Y1 (hiz), 14 3Y2 (hiz), 15 GND (power), 16 3Y3 (hiz), 17 3Y4 (hiz), 18 VCC (power), 19 4Y1 (hiz), 20 4Y2 (hiz), 21 GND (power), 22 4Y3 (hiz), 23 4Y4 (hiz), 24 ~{OE}4 (in), 25 ~{OE}3 (in), 26 4A4 (in), 27 4A3 (in), 28 GND (power), 29 4A2 (in), 30 4A1 (in), 31 VCC (power), 32 3A4 (in), 33 3A3 (in), 34 GND (power), 35 3A2 (in), 36 3A1 (in), 37 2A4 (in), 38 2A3 (in), 39 GND (power), 40 2A2 (in), 41 2A1 (in), 42 VCC (power), 43 1A4 (in), 44 1A3 (in), 45 GND (power), 46 1A2 (in), 47 1A1 (in), 48 ~{OE}2 (in)

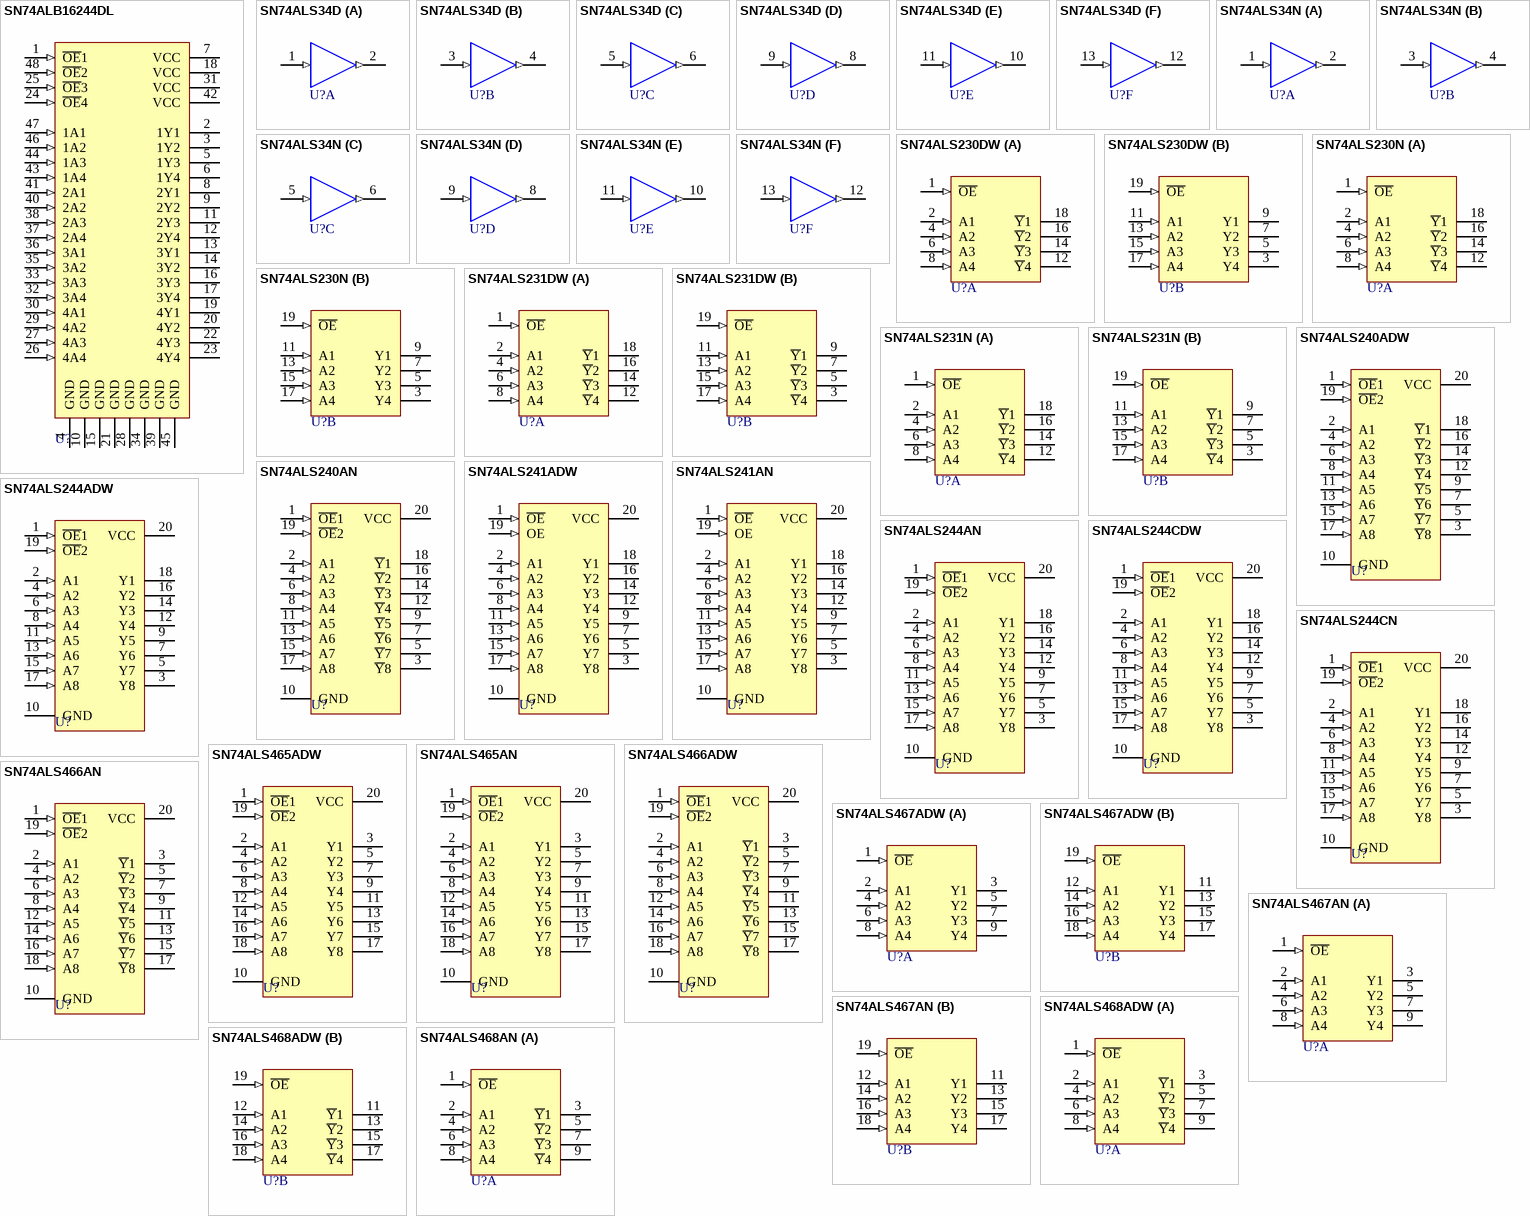
[diagram p21: symbols SN74ALB16244DL to SN74ALS468AN]

## SN74ALB16244DL
designator U?
16-Bit Buffer/Driver with 3-State Outputs; Package Information: Latest Revision: Jan-1998; Code - JEDEC: MO-118-AA; Code - IPC: SSO48; Published: 8-Jun-2000; Revision: 17-Jul-2002: Re-released for DXP Platform.; Datasheet: Latest Revision: Jul-1997; Package Reference: DL048; Publisher: Altium Limited
footprint DL048 (SSOP; 48 Leads; Body Width 7.5 mm; Pitch 0.635 mm)
pins: 1 ~{OE}1 (in), 2 1Y1 (hiz), 3 1Y2 (hiz), 4 GND (power), 5 1Y3 (hiz), 6 1Y4 (hiz), 7 VCC (power), 8 2Y1 (hiz), 9 2Y2 (hiz), 10 GND (power), 11 2Y3 (hiz), 12 2Y4 (hiz), 13 3Y1 (hiz), 14 3Y2 (hiz), 15 GND (power), 16 3Y3 (hiz), 17 3Y4 (hiz), 18 VCC (power), 19 4Y1 (hiz), 20 4Y2 (hiz), 21 GND (power), 22 4Y3 (hiz), 23 4Y4 (hiz), 24 ~{OE}4 (in), 25 ~{OE}3 (in), 26 4A4 (in), 27 4A3 (in), 28 GND (power), 29 4A2 (in), 30 4A1 (in), 31 VCC (power), 32 3A4 (in), 33 3A3 (in), 34 GND (power), 35 3A2 (in), 36 3A1 (in), 37 2A4 (in), 38 2A3 (in), 39 GND (power), 40 2A2 (in), 41 2A1 (in), 42 VCC (power), 43 1A4 (in), 44 1A3 (in), 45 GND (power), 46 1A2 (in), 47 1A1 (in), 48 ~{OE}2 (in)

## SN74ALS34D
designator U?
Hex Non-Inverter; Revision 1: 16-Jan-2001: Symbol size reduced. Output electrical type changed from HiZ to Output.; Revision 2: 17-Jul-2002: Re-released for DXP Platform.; Package Information: Latest Revision: Jan-1998; Published: 8-Jun-2000; Datasheet: Latest Revision: May-1986; Package Reference: D014; Publisher: Altium Limited
footprint D014 (Small Outline; 14 Leads; Body Width 3.9 mm; Pitch 1.27 mm)
signal-integrity model SN74ALS34D
pins on every part: 7 GND (power) hidden to GND, 14 VCC (power) hidden to VCC
part A pins: 1 A (in), 2 Y (out)
part B pins: 3 A (in), 4 Y (out)
part C pins: 5 A (in), 6 Y (out)
part D pins: 8 Y (out), 9 A (in)
part E pins: 10 Y (out), 11 A (in)
part F pins: 12 Y (out), 13 A (in)

## SN74ALS34N
designator U?
Hex Non-Inverter; Revision 1: 16-Jan-2001: Symbol size reduced. Output electrical type changed from HiZ to Output.; Revision 2: 17-Jul-2002: Re-released for DXP Platform.; Package Information: Latest Revision: Oct-1995; Published: 8-Jun-2000; Datasheet: Latest Revision: May-1986; Package Reference: N014; Publisher: Altium Limited
footprint N014 (DIP; 14 Leads; Row Spacing 7.62 mm; Pitch 2.54 mm)
signal-integrity model SN74ALS34N
pins on every part: 7 GND (power) hidden to GND, 14 VCC (power) hidden to VCC
part A pins: 1 A (in), 2 Y (out)
part B pins: 3 A (in), 4 Y (out)
part C pins: 5 A (in), 6 Y (out)
part D pins: 8 Y (out), 9 A (in)
part E pins: 10 Y (out), 11 A (in)
part F pins: 12 Y (out), 13 A (in)

## SN74ALS230DW
designator U?
Octal Buffer/Driver with 3-State Outputs; Package Information: Latest Revision: Mar-2000; Code - JEDEC: MS-013; Published: 8-Jun-2000; Revision: 17-Jul-2002: Re-released for DXP Platform.; Datasheet: 1986 ALS/AS Logic Data Book (May-1986); Package Reference: DW020; Publisher: Altium Limited
footprint DW020 (Plastic Small Outline; 20 Leads; Body Width 7.5 mm)
signal-integrity model SN74ALS230DW
pins on every part: 10 GND (power) hidden to GND, 20 VCC (power) hidden to VCC
part A pins: 1 ~{OE} (in), 2 A1 (in), 4 A2 (in), 6 A3 (in), 8 A4 (in), 12 ~{Y}4 (hiz), 14 ~{Y}3 (hiz), 16 ~{Y}2 (hiz), 18 ~{Y}1 (hiz)
part B pins: 3 Y4 (hiz), 5 Y3 (hiz), 7 Y2 (hiz), 9 Y1 (hiz), 11 A1 (in), 13 A2 (in), 15 A3 (in), 17 A4 (in), 19 ~{OE} (in)

## SN74ALS230N
designator U?
Octal Buffer/Driver with 3-State Outputs; Package Information: Latest Revision: Oct-1995; Published: 8-Jun-2000; Revision: 17-Jul-2002: Re-released for DXP Platform.; Datasheet: 1986 ALS/AS Logic Data Book (May-1986); Package Reference: N020D; Publisher: Altium Limited
footprint N020D (DIP; 20 Leads; Row Spacing 7.62 mm; Pitch 2.54 mm)
signal-integrity model SN74ALS230N
pins on every part: 10 GND (power) hidden to GND, 20 VCC (power) hidden to VCC
part A pins: 1 ~{OE} (in), 2 A1 (in), 4 A2 (in), 6 A3 (in), 8 A4 (in), 12 ~{Y}4 (hiz), 14 ~{Y}3 (hiz), 16 ~{Y}2 (hiz), 18 ~{Y}1 (hiz)
part B pins: 3 Y4 (hiz), 5 Y3 (hiz), 7 Y2 (hiz), 9 Y1 (hiz), 11 A1 (in), 13 A2 (in), 15 A3 (in), 17 A4 (in), 19 ~{OE} (in)

## SN74ALS231DW
designator U?
Octal Buffer/Driver with 3-State Outputs; Package Information: Latest Revision: Mar-2000; Code - JEDEC: MS-013; Published: 8-Jun-2000; Revision: 17-Jul-2002: Re-released for DXP Platform.; Datasheet: 1986 ALS/AS Logic Data Book (May-1986); Package Reference: DW020; Publisher: Altium Limited
footprint DW020 (Plastic Small Outline; 20 Leads; Body Width 7.5 mm)
signal-integrity model SN74ALS231DW
pins on every part: 10 GND (power) hidden to GND, 20 VCC (power) hidden to VCC
part A pins: 1 ~{OE} (in), 2 A1 (in), 4 A2 (in), 6 A3 (in), 8 A4 (in), 12 ~{Y}4 (hiz), 14 ~{Y}3 (hiz), 16 ~{Y}2 (hiz), 18 ~{Y}1 (hiz)
part B pins: 3 ~{Y}4 (hiz), 5 ~{Y}3 (hiz), 7 ~{Y}2 (hiz), 9 ~{Y}1 (hiz), 11 A1 (in), 13 A2 (in), 15 A3 (in), 17 A4 (in), 19 ~{OE} (in)

## SN74ALS231N
designator U?
Octal Buffer/Driver with 3-State Outputs; Package Information: Latest Revision: Oct-1995; Published: 8-Jun-2000; Revision: 17-Jul-2002: Re-released for DXP Platform.; Datasheet: 1986 ALS/AS Logic Data Book (May-1986); Package Reference: N020D; Publisher: Altium Limited
footprint N020D (DIP; 20 Leads; Row Spacing 7.62 mm; Pitch 2.54 mm)
signal-integrity model SN74ALS231N
pins on every part: 10 GND (power) hidden to GND, 20 VCC (power) hidden to VCC
part A pins: 1 ~{OE} (in), 2 A1 (in), 4 A2 (in), 6 A3 (in), 8 A4 (in), 12 ~{Y}4 (hiz), 14 ~{Y}3 (hiz), 16 ~{Y}2 (hiz), 18 ~{Y}1 (hiz)
part B pins: 3 ~{Y}4 (hiz), 5 ~{Y}3 (hiz), 7 ~{Y}2 (hiz), 9 ~{Y}1 (hiz), 11 A1 (in), 13 A2 (in), 15 A3 (in), 17 A4 (in), 19 ~{OE} (in)

## SN74ALS240ADW
designator U?
Octal Buffer/Driver with 3-State Outputs; Package Information: Latest Revision: Mar-2000; Code - JEDEC: MS-013; Published: 8-Jun-2000; Revision: 17-Jul-2002: Re-released for DXP Platform.; Datasheet: Latest Revision: Aug-1995; Package Reference: DW020; Publisher: Altium Limited
footprint DW020 (Plastic Small Outline; 20 Leads; Body Width 7.5 mm)
signal-integrity model SN74ALS240ADW
pins: 1 ~{OE}1 (in), 2 A1 (in), 3 ~{Y}8 (hiz), 4 A2 (in), 5 ~{Y}7 (hiz), 6 A3 (in), 7 ~{Y}6 (hiz), 8 A4 (in), 9 ~{Y}5 (hiz), 10 GND (power), 11 A5 (in), 12 ~{Y}4 (hiz), 13 A6 (in), 14 ~{Y}3 (hiz), 15 A7 (in), 16 ~{Y}2 (hiz), 17 A8 (in), 18 ~{Y}1 (hiz), 19 ~{OE}2 (in), 20 VCC (power)

## SN74ALS240AN
designator U?
Octal Buffer/Driver with 3-State Outputs; Package Information: Latest Revision: Oct-1995; Published: 8-Jun-2000; Revision: 17-Jul-2002: Re-released for DXP Platform.; Datasheet: Latest Revision: Aug-1995; Package Reference: N020; Publisher: Altium Limited
footprint N020 (DIP; 20 Leads; Row Spacing 7.62 mm; Pitch 2.54 mm)
signal-integrity model SN74ALS240AN
pins: 1 ~{OE}1 (in), 2 A1 (in), 3 ~{Y}8 (hiz), 4 A2 (in), 5 ~{Y}7 (hiz), 6 A3 (in), 7 ~{Y}6 (hiz), 8 A4 (in), 9 ~{Y}5 (hiz), 10 GND (power), 11 A5 (in), 12 ~{Y}4 (hiz), 13 A6 (in), 14 ~{Y}3 (hiz), 15 A7 (in), 16 ~{Y}2 (hiz), 17 A8 (in), 18 ~{Y}1 (hiz), 19 ~{OE}2 (in), 20 VCC (power)

## SN74ALS241ADW
designator U?
Octal Buffer and Line Driver with 3-State Outputs; Package Information: Latest Revision: Mar-2000; Code - JEDEC: MS-013; Published: 8-Jun-2000; Revision: 17-Jul-2002: Re-released for DXP Platform.; Datasheet: 1986 ALS/AS Logic Data Book (May-1986); Package Reference: DW020; Publisher: Altium Limited
footprint DW020 (Plastic Small Outline; 20 Leads; Body Width 7.5 mm)
signal-integrity model SN74ALS241ADW
pins: 1 ~{OE}  (in), 2 A1 (in), 3 Y8 (hiz), 4 A2 (in), 5 Y7 (hiz), 6 A3 (in), 7 Y6 (hiz), 8 A4 (in), 9 Y5 (hiz), 10 GND (power), 11 A5 (in), 12 Y4 (hiz), 13 A6  (in), 14 Y3 (hiz), 15 A7  (in), 16 Y2 (hiz), 17 A8 (in), 18 Y1 (hiz), 19 OE (in), 20 VCC (power)

## SN74ALS241AN
designator U?
Octal Buffer and Line Driver with 3-State Outputs; Package Information: Latest Revision: Oct-1995; Published: 8-Jun-2000; Revision: 17-Jul-2002: Re-released for DXP Platform.; Datasheet: 1986 ALS/AS Logic Data Book (May-1986); Package Reference: N020D; Publisher: Altium Limited
footprint N020D (DIP; 20 Leads; Row Spacing 7.62 mm; Pitch 2.54 mm)
signal-integrity model SN74ALS241AN
pins: 1 ~{OE}  (in), 2 A1 (in), 3 Y8 (hiz), 4 A2 (in), 5 Y7 (hiz), 6 A3 (in), 7 Y6 (hiz), 8 A4 (in), 9 Y5 (hiz), 10 GND (power), 11 A5 (in), 12 Y4 (hiz), 13 A6  (in), 14 Y3 (hiz), 15 A7  (in), 16 Y2 (hiz), 17 A8 (in), 18 Y1 (hiz), 19 OE (in), 20 VCC (power)

## SN74ALS244ADW
designator U?
Octal Buffer and Line Driver with 3-State Outputs; Package Information: Latest Revision: Mar-2000; Code - JEDEC: MS-013; Published: 8-Jun-2000; Revision: 17-Jul-2002: Re-released for DXP Platform.; Datasheet: 1986 ALS/AS Logic Data Book (May-1986); Package Reference: DW020; Publisher: Altium Limited
footprint DW020 (Plastic Small Outline; 20 Leads; Body Width 7.5 mm)
signal-integrity model SN74ALS244ADW
pins: 1 ~{OE}1 (in), 2 A1 (in), 3 Y8 (hiz), 4 A2 (in), 5 Y7 (hiz), 6 A3 (in), 7 Y6 (hiz), 8 A4 (in), 9 Y5 (hiz), 10 GND (power), 11 A5 (in), 12 Y4 (hiz), 13 A6 (in), 14 Y3 (hiz), 15 A7 (in), 16 Y2 (hiz), 17 A8 (in), 18 Y1 (hiz), 19 ~{OE}2 (in), 20 VCC (power)

## SN74ALS244AN
designator U?
Octal Buffer and Line Driver with 3-State Outputs; Package Information: Latest Revision: Oct-1995; Published: 8-Jun-2000; Revision: 17-Jul-2002: Re-released for DXP Platform.; Datasheet: 1986 ALS/AS Logic Data Book (May-1986); Package Reference: N020D; Publisher: Altium Limited
footprint N020D (DIP; 20 Leads; Row Spacing 7.62 mm; Pitch 2.54 mm)
signal-integrity model SN74ALS244AN
pins: 1 ~{OE}1 (in), 2 A1 (in), 3 Y8 (hiz), 4 A2 (in), 5 Y7 (hiz), 6 A3 (in), 7 Y6 (hiz), 8 A4 (in), 9 Y5 (hiz), 10 GND (power), 11 A5 (in), 12 Y4 (hiz), 13 A6 (in), 14 Y3 (hiz), 15 A7 (in), 16 Y2 (hiz), 17 A8 (in), 18 Y1 (hiz), 19 ~{OE}2 (in), 20 VCC (power)

## SN74ALS244CDW
designator U?
Octal Buffer/Driver with 3-State Outputs; Package Information: Latest Revision: Mar-2000; Code - JEDEC: MS-013; Published: 8-Jun-2000; Revision: 17-Jul-2002: Re-released for DXP Platform.; Datasheet: Latest Revision: Aug-1995; Package Reference: DW020; Publisher: Altium Limited
footprint DW020 (Plastic Small Outline; 20 Leads; Body Width 7.5 mm)
signal-integrity model SN74ALS244CDW
pins: 1 ~{OE}1 (in), 2 A1 (in), 3 Y8 (hiz), 4 A2 (in), 5 Y7 (hiz), 6 A3 (in), 7 Y6 (hiz), 8 A4 (in), 9 Y5 (hiz), 10 GND (power), 11 A5 (in), 12 Y4 (hiz), 13 A6 (in), 14 Y3 (hiz), 15 A7 (in), 16 Y2 (hiz), 17 A8 (in), 18 Y1 (hiz), 19 ~{OE}2 (in), 20 VCC (power)

## SN74ALS244CN
designator U?
Octal Buffer/Driver with 3-State Outputs; Package Information: Latest Revision: Oct-1995; Published: 8-Jun-2000; Revision: 17-Jul-2002: Re-released for DXP Platform.; Datasheet: Latest Revision: Aug-1995; Package Reference: N020; Publisher: Altium Limited
footprint N020 (DIP; 20 Leads; Row Spacing 7.62 mm; Pitch 2.54 mm)
signal-integrity model SN74ALS244CN
pins: 1 ~{OE}1 (in), 2 A1 (in), 3 Y8 (hiz), 4 A2 (in), 5 Y7 (hiz), 6 A3 (in), 7 Y6 (hiz), 8 A4 (in), 9 Y5 (hiz), 10 GND (power), 11 A5 (in), 12 Y4 (hiz), 13 A6 (in), 14 Y3 (hiz), 15 A7 (in), 16 Y2 (hiz), 17 A8 (in), 18 Y1 (hiz), 19 ~{OE}2 (in), 20 VCC (power)

## SN74ALS465ADW
designator U?
Octal Buffer with 3-State Outputs; Package Information: Latest Revision: Mar-2000; Code - JEDEC: MS-013; Published: 8-Jun-2000; Revision: 17-Jul-2002: Re-released for DXP Platform.; Datasheet: Latest Revision: May-1986; Package Reference: DW020; Publisher: Altium Limited
footprint DW020 (Plastic Small Outline; 20 Leads; Body Width 7.5 mm)
signal-integrity model SN74ALS465ADW
pins: 1 ~{OE}1 (in), 2 A1 (in), 3 Y1 (hiz), 4 A2 (in), 5 Y2 (hiz), 6 A3 (in), 7 Y3 (hiz), 8 A4 (in), 9 Y4 (hiz), 10 GND (power), 11 Y5 (hiz), 12 A5 (in), 13 Y6 (hiz), 14 A6 (in), 15 Y7 (hiz), 16 A7 (in), 17 Y8 (hiz), 18 A8 (in), 19 ~{OE}2 (in), 20 VCC (power)

## SN74ALS465AN
designator U?
Octal Buffer with 3-State Outputs; Package Information: Latest Revision: Oct-1995; Published: 8-Jun-2000; Revision: 17-Jul-2002: Re-released for DXP Platform.; Datasheet: Latest Revision: May-1986; Package Reference: N020; Publisher: Altium Limited
footprint N020 (DIP; 20 Leads; Row Spacing 7.62 mm; Pitch 2.54 mm)
signal-integrity model SN74ALS465AN
pins: 1 ~{OE}1 (in), 2 A1 (in), 3 Y1 (hiz), 4 A2 (in), 5 Y2 (hiz), 6 A3 (in), 7 Y3 (hiz), 8 A4 (in), 9 Y4 (hiz), 10 GND (power), 11 Y5 (hiz), 12 A5 (in), 13 Y6 (hiz), 14 A6 (in), 15 Y7 (hiz), 16 A7 (in), 17 Y8 (hiz), 18 A8 (in), 19 ~{OE}2 (in), 20 VCC (power)

## SN74ALS466ADW
designator U?
Octal Buffer with 3-State Outputs; Package Information: Latest Revision: Mar-2000; Code - JEDEC: MS-013; Published: 8-Jun-2000; Revision: 17-Jul-2002: Re-released for DXP Platform.; Datasheet: Latest Revision: May-1986; Package Reference: DW020; Publisher: Altium Limited
footprint DW020 (Plastic Small Outline; 20 Leads; Body Width 7.5 mm)
signal-integrity model SN74ALS466ADW
pins: 1 ~{OE}1 (in), 2 A1 (in), 3 ~{Y}1 (hiz), 4 A2 (in), 5 ~{Y}2 (hiz), 6 A3 (in), 7 ~{Y}3 (hiz), 8 A4 (in), 9 ~{Y}4 (hiz), 10 GND (power), 11 ~{Y}5 (hiz), 12 A5 (in), 13 ~{Y}6 (hiz), 14 A6 (in), 15 ~{Y}7 (hiz), 16 A7 (in), 17 ~{Y}8 (hiz), 18 A8 (in), 19 ~{OE}2 (in), 20 VCC (power)

## SN74ALS466AN
designator U?
Octal Buffer with 3-State Outputs; Package Information: Latest Revision: Oct-1995; Published: 8-Jun-2000; Revision: 17-Jul-2002: Re-released for DXP Platform.; Datasheet: Latest Revision: May-1986; Package Reference: N020; Publisher: Altium Limited
footprint N020 (DIP; 20 Leads; Row Spacing 7.62 mm; Pitch 2.54 mm)
signal-integrity model SN74ALS466AN
pins: 1 ~{OE}1 (in), 2 A1 (in), 3 ~{Y}1 (hiz), 4 A2 (in), 5 ~{Y}2 (hiz), 6 A3 (in), 7 ~{Y}3 (hiz), 8 A4 (in), 9 ~{Y}4 (hiz), 10 GND (power), 11 ~{Y}5 (hiz), 12 A5 (in), 13 ~{Y}6 (hiz), 14 A6 (in), 15 ~{Y}7 (hiz), 16 A7 (in), 17 ~{Y}8 (hiz), 18 A8 (in), 19 ~{OE}2 (in), 20 VCC (power)

## SN74ALS467ADW
designator U?
Octal Buffer with 3-State Outputs; Package Information: Latest Revision: Mar-2000; Code - JEDEC: MS-013; Published: 8-Jun-2000; Revision: 17-Jul-2002: Re-released for DXP Platform.; Datasheet: 1986 ALS/AS Logic Data Book (May-1986); Package Reference: DW020; Publisher: Altium Limited
footprint DW020 (Plastic Small Outline; 20 Leads; Body Width 7.5 mm)
signal-integrity model SN74ALS467ADW
pins on every part: 10 GND (power) hidden to GND, 20 VCC (power) hidden to VCC
part A pins: 1 ~{OE} (in), 2 A1 (in), 3 Y1 (hiz), 4 A2 (in), 5 Y2 (hiz), 6 A3 (in), 7 Y3 (hiz), 8 A4 (in), 9 Y4 (hiz)
part B pins: 11 Y1 (hiz), 12 A1 (in), 13 Y2 (hiz), 14 A2 (in), 15 Y3 (hiz), 16 A3 (in), 17 Y4 (hiz), 18 A4 (in), 19 ~{OE} (in)

## SN74ALS467AN
designator U?
Octal Buffer with 3-State Outputs; Package Information: Latest Revision: Oct-1995; Published: 8-Jun-2000; Revision: 17-Jul-2002: Re-released for DXP Platform.; Datasheet: 1986 ALS/AS Logic Data Book (May-1986); Package Reference: N020D; Publisher: Altium Limited
footprint N020D (DIP; 20 Leads; Row Spacing 7.62 mm; Pitch 2.54 mm)
signal-integrity model SN74ALS467AN
pins on every part: 10 GND (power) hidden to GND, 20 VCC (power) hidden to VCC
part A pins: 1 ~{OE} (in), 2 A1 (in), 3 Y1 (hiz), 4 A2 (in), 5 Y2 (hiz), 6 A3 (in), 7 Y3 (hiz), 8 A4 (in), 9 Y4 (hiz)
part B pins: 11 Y1 (hiz), 12 A1 (in), 13 Y2 (hiz), 14 A2 (in), 15 Y3 (hiz), 16 A3 (in), 17 Y4 (hiz), 18 A4 (in), 19 ~{OE} (in)

## SN74ALS468ADW
designator U?
Octal Buffer with 3-State Outputs; Package Information: Latest Revision: Mar-2000; Code - JEDEC: MS-013; Published: 8-Jun-2000; Revision: 17-Jul-2002: Re-released for DXP Platform.; Datasheet: 1986 ALS/AS Logic Data Book (May-1986); Package Reference: DW020; Publisher: Altium Limited
footprint DW020 (Plastic Small Outline; 20 Leads; Body Width 7.5 mm)
signal-integrity model SN74ALS468ADW
pins on every part: 10 GND (power) hidden to GND, 20 VCC (power) hidden to VCC
part A pins: 1 ~{OE} (in), 2 A1 (in), 3 ~{Y}1 (hiz), 4 A2 (in), 5 ~{Y}2 (hiz), 6 A3 (in), 7 ~{Y}3 (hiz), 8 A4 (in), 9 ~{Y}4 (hiz)
part B pins: 11 ~{Y}1 (hiz), 12 A1 (in), 13 ~{Y}2 (hiz), 14 A2 (in), 15 ~{Y}3 (hiz), 16 A3 (in), 17 ~{Y}4 (hiz), 18 A4 (in), 19 ~{OE} (in)

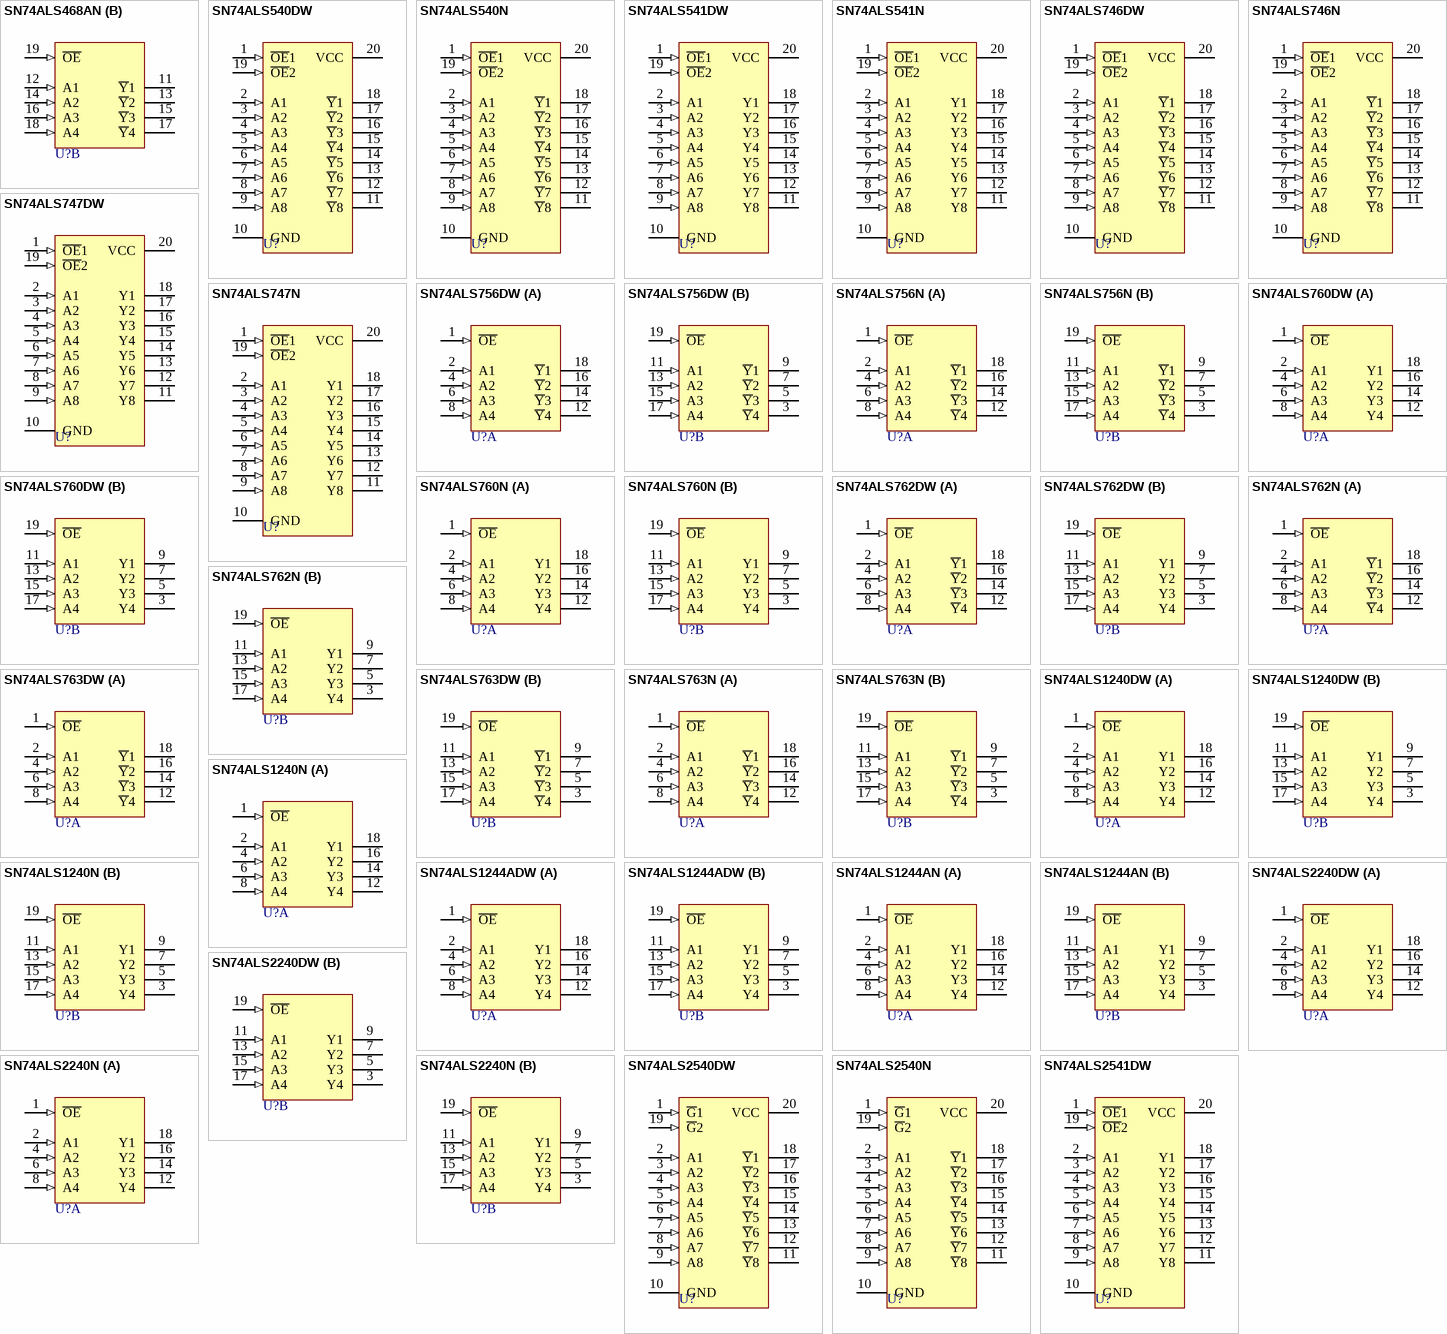
[diagram p22: symbols SN74ALS468AN to SN74ALS2541DW]

## SN74ALS468AN
designator U?
Octal Buffer with 3-State Outputs; Package Information: Latest Revision: Oct-1995; Published: 8-Jun-2000; Revision: 17-Jul-2002: Re-released for DXP Platform.; Datasheet: 1986 ALS/AS Logic Data Book (May-1986); Package Reference: N020D; Publisher: Altium Limited
footprint N020D (DIP; 20 Leads; Row Spacing 7.62 mm; Pitch 2.54 mm)
signal-integrity model SN74ALS468AN
pins on every part: 10 GND (power) hidden to GND, 20 VCC (power) hidden to VCC
part A pins: 1 ~{OE} (in), 2 A1 (in), 3 ~{Y}1 (hiz), 4 A2 (in), 5 ~{Y}2 (hiz), 6 A3 (in), 7 ~{Y}3 (hiz), 8 A4 (in), 9 ~{Y}4 (hiz)
part B pins: 11 ~{Y}1 (hiz), 12 A1 (in), 13 ~{Y}2 (hiz), 14 A2 (in), 15 ~{Y}3 (hiz), 16 A3 (in), 17 ~{Y}4 (hiz), 18 A4 (in), 19 ~{OE} (in)

## SN74ALS540DW
designator U?
Octal Buffer/Driver with 3-State Outputs; Package Information: Latest Revision: Mar-2000; Code - JEDEC: MS-013; Published: 8-Jun-2000; Revision: 17-Jul-2002: Re-released for DXP Platform.; Datasheet: Latest Revision: Jan-1995; Package Reference: DW020; Publisher: Altium Limited
footprint DW020 (Plastic Small Outline; 20 Leads; Body Width 7.5 mm)
signal-integrity model SN74ALS540DW
pins: 1 ~{OE}1 (in), 2 A1 (in), 3 A2 (in), 4 A3 (in), 5 A4 (in), 6 A5 (in), 7 A6 (in), 8 A7 (in), 9 A8 (in), 10 GND (power), 11 ~{Y}8 (hiz), 12 ~{Y}7 (hiz), 13 ~{Y}6 (hiz), 14 ~{Y}5 (hiz), 15 ~{Y}4 (hiz), 16 ~{Y}3 (hiz), 17 ~{Y}2 (hiz), 18 ~{Y}1 (hiz), 19 ~{OE}2 (in), 20 VCC (power)

## SN74ALS540N
designator U?
Octal Buffer/Driver with 3-State Outputs; Package Information: Latest Revision: Oct-1995; Published: 8-Jun-2000; Revision: 17-Jul-2002: Re-released for DXP Platform.; Datasheet: Latest Revision: Jan-1995; Package Reference: N020; Publisher: Altium Limited
footprint N020 (DIP; 20 Leads; Row Spacing 7.62 mm; Pitch 2.54 mm)
signal-integrity model SN74ALS540N
pins: 1 ~{OE}1 (in), 2 A1 (in), 3 A2 (in), 4 A3 (in), 5 A4 (in), 6 A5 (in), 7 A6 (in), 8 A7 (in), 9 A8 (in), 10 GND (power), 11 ~{Y}8 (hiz), 12 ~{Y}7 (hiz), 13 ~{Y}6 (hiz), 14 ~{Y}5 (hiz), 15 ~{Y}4 (hiz), 16 ~{Y}3 (hiz), 17 ~{Y}2 (hiz), 18 ~{Y}1 (hiz), 19 ~{OE}2 (in), 20 VCC (power)

## SN74ALS541DW
designator U?
Octal Buffer/Driver with 3-State Outputs; Package Information: Latest Revision: Mar-2000; Code - JEDEC: MS-013; Published: 8-Jun-2000; Revision: 17-Jul-2002: Re-released for DXP Platform.; Datasheet: Latest Revision: Jan-1995; Package Reference: DW020; Publisher: Altium Limited
footprint DW020 (Plastic Small Outline; 20 Leads; Body Width 7.5 mm)
signal-integrity model SN74ALS541DW
pins: 1 ~{OE}1 (in), 2 A1 (in), 3 A2 (in), 4 A3 (in), 5 A4 (in), 6 A5 (in), 7 A6 (in), 8 A7 (in), 9 A8 (in), 10 GND (power), 11 Y8 (hiz), 12 Y7 (hiz), 13 Y6 (hiz), 14 Y5 (hiz), 15 Y4 (hiz), 16 Y3 (hiz), 17 Y2 (hiz), 18 Y1 (hiz), 19 ~{OE}2 (in), 20 VCC (power)

## SN74ALS541N
designator U?
Octal Buffer/Driver with 3-State Outputs; Package Information: Latest Revision: Oct-1995; Published: 8-Jun-2000; Revision: 17-Jul-2002: Re-released for DXP Platform.; Datasheet: Latest Revision: Jan-1995; Package Reference: N020; Publisher: Altium Limited
footprint N020 (DIP; 20 Leads; Row Spacing 7.62 mm; Pitch 2.54 mm)
signal-integrity model SN74ALS541N
pins: 1 ~{OE}1 (in), 2 A1 (in), 3 A2 (in), 4 A3 (in), 5 A4 (in), 6 A5 (in), 7 A6 (in), 8 A7 (in), 9 A8 (in), 10 GND (power), 11 Y8 (hiz), 12 Y7 (hiz), 13 Y6 (hiz), 14 Y5 (hiz), 15 Y4 (hiz), 16 Y3 (hiz), 17 Y2 (hiz), 18 Y1 (hiz), 19 ~{OE}2 (in), 20 VCC (power)

## SN74ALS746DW
designator U?
Octal Buffer and Line Driver with Input Pull-Up Resistors; Package Information: Latest Revision: Mar-2000; Code - JEDEC: MS-013; Published: 8-Jun-2000; Revision: 17-Jul-2002: Re-released for DXP Platform.; Datasheet: Latest Revision: Jan-1995; Package Reference: DW020; Publisher: Altium Limited
footprint DW020 (Plastic Small Outline; 20 Leads; Body Width 7.5 mm)
signal-integrity model SN74ALS746DW
pins: 1 ~{OE}1 (in), 2 A1 (in), 3 A2 (in), 4 A3 (in), 5 A4 (in), 6 A5 (in), 7 A6 (in), 8 A7 (in), 9 A8 (in), 10 GND (power), 11 ~{Y}8 (hiz), 12 ~{Y}7 (hiz), 13 ~{Y}6 (hiz), 14 ~{Y}5 (hiz), 15 ~{Y}4 (hiz), 16 ~{Y}3 (hiz), 17 ~{Y}2 (hiz), 18 ~{Y}1 (hiz), 19 ~{OE}2 (in), 20 VCC (power)